# Altium footprint library Power_Filters.PcbLib: 10 footprints
Each footprint in its own frame and in the unit in brackets; x right, y up, seen from the top. Pads: shape width x height; smd on the part's side, far side on the other; paste and mask are expansions set on the pad; w line width, h text height; cw(c..) or ccw(c..) is an arc to the next point about the centre after c.
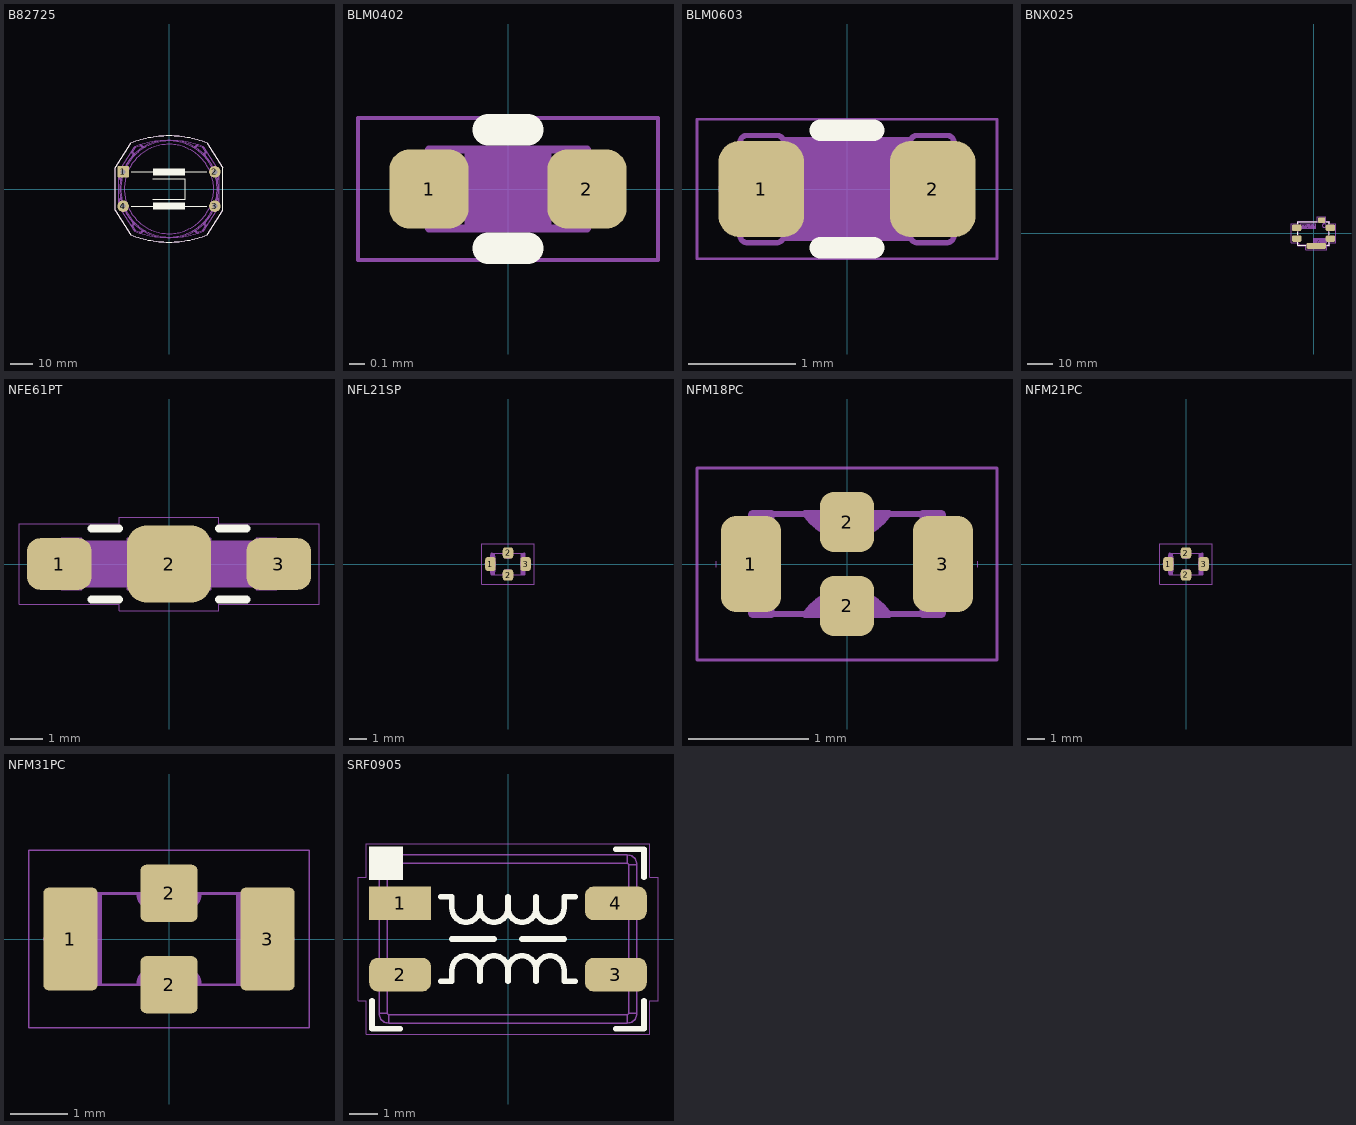
[diagram p0: the footprints below, top view; thin cyan lines are the x and y axes]

## B82725 [mm] "Ring core double chokes B82725 Series"
height 25
pads (4):
  rrect20% 5x5 hole 2.2 mask+0.05: 1(-20,7.5)
  round 5 hole 2.2 mask+0.05: 2(20,7.5) 3(20,-7.5) 4(-20,-7.5)
Top Overlay:
  rectangle: -7,-9 7,-6
  rectangle: -7,6 7,9
  lines w0.2: -23.479,-9.266 -16.647,-19.957 ccw(c0,21.148) 16.647,-19.957 23.479,-9.266 23.479,9.266 16.647,19.957 ccw(c0,-21.148) -16.647,19.957 -23.479,9.266 -23.479,-9.266
  lines w0.5: -16.5,-7.5 16.5,-7.5 ; -16.5,7.5 16.5,7.5 ; -7,-4.5 7,-4.5 7,4.5 -7,4.5
Top Courtyard:
  lines w0.025: -23.479,-9.266 -16.647,-19.957 ccw(c0,21.148) 16.647,-19.957 23.479,-9.266 23.479,9.266 16.647,19.957 ccw(c0,-21.148) -16.647,19.957 -23.479,9.266 -23.479,-9.266
Top Assembly:
  drawing of 168 lines, arcs and shapes, not listed
  text ".Designator" at -18.043,-1.811 h8
3D body "B82725A.x_t": height 28.5, standoff -4, extent -22,-21.2 22,21.2

## BLM0402 [mm]
height 0.5
pads (2):
  rrect50% 0.5x0.5 smd mask+0.075: 1(-0.5,0) 2(0.5,0)
Top Overlay:
  lines w0.2: -0.125,-0.375 0.125,-0.375 ; -0.125,0.375 0.125,0.375
Top Courtyard:
  lines w0.025: -0.95,-0.45 0.95,-0.45 0.95,0.45 -0.95,0.45 -0.95,-0.45
Top Assembly:
  lines w0.01: -0.74,-0.025 -0.74,0.025 ; 0.74,-0.025 0.74,0.025
  lines w0.05: -0.25,-0.25 -0.25,0.25 ; -0.2,-0.25 -0.2,0.25 ; -0.15,-0.25 -0.15,0.25 ; -0.1,-0.25 -0.1,0.25 ; -0.05,-0.25 -0.05,0.25 ; 0,-0.25 0,0.25 ; 0.05,-0.25 0.05,0.25 ; 0.1,-0.25 0.1,0.25 ; 0.15,-0.25 0.15,0.25 ; 0.2,-0.25 0.2,0.25 ; 0.25,-0.25 0.25,0.25 ; -0.5,-0.25 0.5,-0.25 0.5,0.25 -0.5,0.25 -0.5,-0.25
  text ".Designator" at -2.252,0.574 h1
3D body "BLM15.x_t": height 0.5, standoff 0, extent -0.5,-0.25 0.5,0.25

## BLM0603 [mm] "Filter 0603"
height 0.8
pads (2):
  rrect50% 0.8x0.9 smd mask+0.05: 1(-0.8,0) 2(0.8,0)
Top Overlay:
  lines w0.2: -0.25,-0.55 0.25,-0.55 ; -0.25,0.55 0.25,0.55
Top Courtyard:
  lines w0.025: -1.4,-0.65 -1.4,0.65 1.4,0.65 1.4,-0.65 -1.4,-0.65
Top Assembly:
  lines w0.01: -1.19,-0.025 -1.19,0.025 ; 1.19,-0.025 1.19,0.025
  lines w0.05: -0.55,-0.45 -0.55,0.45 ; -0.5,-0.45 -0.5,0.45 ; -0.45,-0.45 -0.45,0.45 ; -0.4,-0.45 -0.4,0.45 ; -0.35,-0.45 -0.35,0.45 ; -0.3,-0.45 -0.3,0.45 ; -0.25,-0.45 -0.25,0.45 ; -0.2,-0.45 -0.2,0.45 ; -0.15,-0.45 -0.15,0.45 ; -0.1,-0.45 -0.1,0.45 ; -0.05,-0.45 -0.05,0.45 ; 0,-0.45 0,0.45 ; 0.05,-0.45 0.05,0.45 ; 0.1,-0.45 0.1,0.45 ; 0.15,-0.45 0.15,0.45 ; 0.2,-0.45 0.2,0.45 ; 0.25,-0.45 0.25,0.45 ; 0.3,-0.45 0.3,0.45 ; 0.35,-0.45 0.35,0.45 ; 0.4,-0.45 0.4,0.45 ; 0.45,-0.45 0.45,0.45 ; 0.5,-0.45 0.5,0.45 ; 0.55,-0.45 0.55,0.45 ; 0.596,0.459 cw(c0.652,0.44) 0.653,0.5 0.656,0.5 0.936,0.5 cw(c0.936,0.44) 0.996,0.44 0.996,-0.44 cw(c0.936,-0.44) 0.936,-0.5 0.656,-0.5 0.652,-0.5 ; -0.596,-0.46 cw(c-0.652,-0.44) -0.652,-0.5 -0.656,-0.5 -0.936,-0.5 cw(c-0.936,-0.44) -0.996,-0.44 -0.996,0.44 cw(c-0.936,0.44) -0.936,0.5 -0.656,0.5 -0.653,0.5 cw(c-0.652,0.44) -0.596,0.46 ; -0.596,-0.46 -0.596,-0.442 -0.596,-0.4 -0.596,0.4 -0.596,0.442 -0.596,0.46 ; -0.596,-0.46 0.596,-0.46 ; -0.596,0.46 0.596,0.46 0.596,0.442 0.596,0.4 0.596,-0.4 0.596,-0.442 0.596,-0.46 ; 0.596,-0.46 ccw(c0.652,-0.44) 0.652,-0.5 ; 0.653,-0.5 0.653,-0.5
  text ".Designator" at -2.252,0.774 h1
3D body "BLM18.x_t": height 0.8, standoff 0, extent -0.8,-0.4 0.8,0.4

## BNX025 [mm]
pads (6):
  rrect50% 3.8x2.5 smd paste-2: 1(-6.7,2.15) 2(6.7,2.15) 3(-6.7,-2.15) 4(6.7,-2.15)
  rrect50% 2.8x2.3 smd paste-2: 5(3.2,5.15)
  rrect50% 7.9x2.3 smd paste-2: 6(1.05,-5.05)
Top Overlay:
  lines w0.2: -6.2,-3.65 -6.2,-4.85 -3.1,-4.85 ; -6.2,-0.65 -6.2,0.65 ; -6.2,3.65 -6.2,4.65 1.5,4.65 ; 4.9,4.65 6.3,4.65 6.3,3.65 ; 5.3,-4.85 6.3,-4.85 6.3,-3.65 ; 6.3,-0.65 6.3,0.65
Top Paste:
  drawing of 40 lines, arcs and shapes, not listed
Top Courtyard:
  lines w0.025: -8.9,-3.7 -8.9,3.7 -6.35,3.7 -6.35,4.8 1.5,4.8 1.5,6.6 4.9,6.6 4.9,4.8 6.45,4.8 6.45,3.7 8.9,3.7 8.9,-3.7 6.45,-3.7 6.45,-5 5.3,-5 5.3,-6.5 -3.2,-6.5 -3.2,-5 -6.35,-5 -6.35,-3.7 -8.9,-3.7
Top Assembly:
  drawing of 472 lines, arcs and shapes, not listed
  text ".DESIGNATOR" at -6.073,-0.641 h2
3D body "BNX025.step": height 3.6, standoff 0, extent -6.15,-4.65 6.15,4.65

## NFE61PT [mm] "3-terminal capacitor"
height 1.6
pads (3):
  rrect50% 2x1.6 smd mask+0.05: 1(-3.4,0) 3(3.4,0)
  rrect50% 2.6x2.4 smd paste-5 mask+0.05: 2(0,0)
Top Overlay:
  lines w0.254: -2.4,-1.1 -1.55,-1.1 ; -2.4,1.1 -1.55,1.1 ; 1.55,-1.1 2.4,-1.1 ; 1.55,1.1 2.4,1.1
Top Courtyard:
  lines w0.025: -4.65,-1.25 -4.65,1.25 -1.55,1.25 -1.55,1.45 1.55,1.45 1.55,1.25 4.65,1.25 4.65,-1.25 1.55,-1.25 1.55,-1.45 -1.55,-1.45 -1.55,-1.25 -4.65,-1.25
Top Assembly:
  lines w0.05: -2.7,-0.7 -1.3,-0.7 ; -2.7,0.7 -1.3,0.7 ; -2.65,-0.7 -2.65,0.7 ; -2.6,-0.7 -2.6,0.7 ; -2.55,-0.7 -2.55,0.7 ; -2.5,-0.7 -2.5,0.7 ; -2.45,-0.7 -2.45,0.7 ; -2.4,-0.7 -2.4,0.7 ; -2.35,-0.7 -2.35,0.7 ; -2.3,-0.7 -2.3,0.7 ; -2.25,-0.7 -2.25,0.7 ; -2.2,-0.7 -2.2,0.7 ; -2.15,-0.7 -2.15,0.7 ; -2.1,-0.7 -2.1,0.7 ; -2.05,-0.7 -2.05,0.7 ; -2,-0.7 -2,0.7 ; -1.95,-0.7 -1.95,0.7 ; -1.9,-0.7 -1.9,0.7 ; -1.85,-0.7 -1.85,0.7 ; -1.8,-0.7 -1.8,0.7 ; -1.75,-0.7 -1.75,0.7 ; -1.7,-0.7 -1.7,0.7 ; -1.65,-0.7 -1.65,0.7 ; -1.6,-0.7 -1.6,0.7 ; -1.55,-0.7 -1.55,0.7 ; -1.5,-0.7 -1.5,0.7 ; -1.45,-0.7 -1.45,0.7 ; -1.4,-0.7 -1.4,0.7 ; -1.35,-0.7 -1.35,0.7 ; 1.3,-0.7 2.7,-0.7 ; 1.3,0.7 2.7,0.7 ; 1.35,-0.7 1.35,0.7 ; 1.4,-0.7 1.4,0.7 ; 1.45,-0.7 1.45,0.7 ; 1.5,-0.7 1.5,0.7 ; 1.55,-0.7 1.55,0.7 ; 1.6,-0.7 1.6,0.7 ; 1.65,-0.7 1.65,0.7 ; 1.7,-0.7 1.7,0.7 ; 1.75,-0.7 1.75,0.7 ; 1.8,-0.7 1.8,0.7 ; 1.85,-0.7 1.85,0.7 ; 1.9,-0.7 1.9,0.7 ; 1.95,-0.7 1.95,0.7 ; 2,-0.7 2,0.7 ; 2.05,-0.7 2.05,0.7 ; 2.1,-0.7 2.1,0.7 ; 2.15,-0.7 2.15,0.7 ; 2.2,-0.7 2.2,0.7 ; 2.25,-0.7 2.25,0.7 ; 2.3,-0.7 2.3,0.7 ; 2.35,-0.7 2.35,0.7 ; 2.4,-0.7 2.4,0.7 ; 2.45,-0.7 2.45,0.7 ; 2.5,-0.7 2.5,0.7 ; 2.55,-0.7 2.55,0.7 ; 2.6,-0.7 2.6,0.7 ; 2.65,-0.7 2.65,0.7 ; -3.3,-0.8 cw(c-3.3,-0.7) -3.4,-0.7 -3.4,0.7 cw(c-3.3,0.7) -3.3,0.8 ; -3.3,-0.8 -2.7,-0.8 -2.7,0.8 -3.3,0.8 ; -3.3,-0.8 -3.3,0.8 ; 3.3,-0.8 ccw(c3.3,-0.7) 3.4,-0.7 3.4,0.7 ccw(c3.3,0.7) 3.3,0.8 ; 3.3,-0.8 2.7,-0.8 2.7,0.8 3.3,0.8 ; 3.3,-0.8 3.3,0.8 ; -1.3,-0.8 1.3,-0.8 1.3,0.8 -1.3,0.8 -1.3,-0.8
  text ".Designator" at -2.252,-0.226 h1
3D body "NFE61.x_t": height 1.6, standoff 0, extent -3.4,-0.8 3.4,0.8

## NFL21SP [mm] "3-terminal capacitor NFL21SP Series"
height 0.85
pads (4):
  rrect50% 0.6x0.8 smd mask+0.05: 1(-1,0) 3(1,0)
  rrect50% 0.6x0.65 smd mask+0.05: 2(0,-0.63) 2(0,0.63)
Top Courtyard:
  lines w0.025: -1.5,-1.15 -1.5,1.15 1.5,1.15 1.5,-1.15 -1.5,-1.15
Top Assembly:
  lines w0.01: -1.34,-0.025 -1.34,0.025 ; 1.34,-0.025 1.34,0.025
  lines w0.05: -0.957,-0.574 -0.957,0.575 ; -0.893,-0.625 cw(c-0.893,-0.525) -0.993,-0.525 -0.993,0.525 cw(c-0.893,0.525) -0.893,0.625 ; -0.857,-0.624 -0.857,0.625 ; -0.807,-0.624 -0.807,0.625 ; -0.311,-0.624 cw(c-0.007,-0.624) 0.297,-0.624 ; -0.311,0.624 ccw(c-0.007,0.624) 0.297,0.624 ; -0.3,-0.625 -0.3,-0.55 ; -0.3,0.55 -0.3,0.625 ; -0.25,-0.61 -0.25,-0.475 ; -0.25,0.475 -0.25,0.61 ; -0.2,-0.615 -0.2,-0.425 ; -0.2,0.425 -0.2,0.615 ; -0.15,-0.615 -0.15,-0.375 ; -0.15,0.375 -0.15,0.615 ; -0.1,-0.62 -0.1,-0.35 ; -0.1,0.35 -0.1,0.62 ; -0.05,-0.625 -0.05,-0.325 ; -0.05,0.325 -0.05,0.625 ; 0,-0.625 0,-0.325 ; 0,0.325 0,0.625 ; 0.05,-0.625 0.05,-0.325 ; 0.05,0.325 0.05,0.625 ; 0.1,-0.62 0.1,-0.35 ; 0.1,0.35 0.1,0.62 ; 0.15,-0.615 0.15,-0.375 ; 0.15,0.375 0.15,0.615 ; 0.2,-0.615 0.2,-0.425 ; 0.2,0.425 0.2,0.615 ; 0.25,-0.61 0.25,-0.475 ; 0.25,0.475 0.25,0.61 ; 0.807,-0.624 0.807,0.625 ; 0.857,-0.624 0.857,0.625 ; 0.907,-0.624 0.907,0.625 ; 0.957,-0.574 0.957,0.575 ; -0.907,-0.624 -0.907,0.625 0.893,0.625 cw(c0.893,0.525) 0.993,0.525 0.993,-0.525 cw(c0.893,-0.525) 0.893,-0.625 -0.907,-0.625 ; -0.757,-0.624 ccw(c-4.638,0) -0.757,0.625 -0.757,-0.624 ; 0.757,-0.624 cw(c4.638,0) 0.757,0.625 0.757,-0.624
  text ".Designator" at -2.252,0.974 h1
3D body "NFL21SP.x_t": height 0.85, standoff 0, extent -1,-0.625 1,0.625

## NFM18PC [mm] "3-terminal capacitor NFM18CC/18PC Series"
height 0.8
pads (4):
  rrect50% 0.5x0.8 smd mask+0.05: 1(-0.8,0) 3(0.8,0)
  rrect50% 0.45x0.5 smd mask+0.05: 2(0,-0.35) 2(0,0.35)
Top Courtyard:
  lines w0.025: -1.25,-0.8 1.25,-0.8 1.25,0.8 -1.25,0.8 -1.25,-0.8
Top Assembly:
  lines w0.01: -1.09,-0.025 -1.09,0.025 ; 1.09,-0.025 1.09,0.025
  lines w0.05: -0.78,-0.405 -0.78,0.405 ; -0.73,-0.405 -0.73,0.405 ; -0.68,-0.405 -0.68,0.405 ; -0.63,-0.415 -0.344,-0.415 ; -0.63,0.415 -0.344,0.415 ; -0.3,-0.425 -0.3,-0.375 ; -0.3,0.375 -0.3,0.425 ; -0.25,-0.425 -0.25,-0.315 ; -0.25,0.315 -0.25,0.425 ; -0.2,-0.425 -0.2,-0.295 ; -0.2,0.295 -0.2,0.425 ; -0.15,-0.425 -0.15,-0.265 ; -0.15,0.265 -0.15,0.425 ; -0.1,-0.425 -0.1,-0.265 ; -0.1,0.265 -0.1,0.425 ; -0.05,-0.425 -0.05,-0.265 ; -0.05,0.265 -0.05,0.425 ; 0,-0.425 0,-0.24 ; 0,0.24 0,0.425 ; 0.05,-0.425 0.05,-0.24 ; 0.05,0.24 0.05,0.425 ; 0.1,-0.425 0.1,-0.24 ; 0.1,0.24 0.1,0.425 ; 0.15,-0.425 0.15,-0.265 ; 0.15,0.265 0.15,0.425 ; 0.2,-0.425 0.2,-0.295 ; 0.2,0.295 0.2,0.425 ; 0.25,-0.425 0.25,-0.315 ; 0.25,0.315 0.25,0.425 ; 0.3,-0.425 0.3,-0.375 ; 0.3,0.375 0.3,0.425 ; 0.344,-0.415 0.63,-0.415 ; 0.344,0.415 0.63,0.415 ; 0.67,-0.405 0.67,0.405 ; 0.72,-0.405 0.72,0.405 ; 0.77,-0.405 0.77,0.405 ; -0.8,-0.405 ccw(c-0.78,-0.405) -0.78,-0.425 -0.63,-0.425 -0.63,-0.405 -0.63,0.405 -0.63,0.425 -0.78,0.425 ccw(c-0.78,0.405) -0.8,0.405 -0.8,-0.405 ; -0.35,-0.425 cw(c0,-0.631) -0.337,-0.405 cw(c0,-0.631) 0.337,-0.405 cw(c0,-0.631) 0.35,-0.425 -0.35,-0.425 ; -0.35,0.425 ccw(c0,0.631) -0.337,0.405 ccw(c0,0.631) 0.337,0.405 ccw(c0,0.631) 0.35,0.425 -0.35,0.425 ; 0.63,-0.425 0.63,-0.405 0.63,0.405 0.63,0.425 0.78,0.425 cw(c0.78,0.405) 0.8,0.405 0.8,-0.405 cw(c0.78,-0.405) 0.78,-0.425 0.63,-0.425
  text ".Designator" at -2.252,0.674 h1
3D body "NFM18.x_t": height 0.6, standoff 0, extent -0.8,-0.4 0.8,0.4

## NFM21PC [mm] "3-terminal capacitor NFM21CC/21PC Series"
height 0.85
pads (4):
  rrect50% 0.6x0.8 smd mask+0.05: 1(-1,0) 3(1,0)
  rrect50% 0.6x0.65 smd mask+0.05: 2(0,-0.625) 2(0,0.625)
Top Courtyard:
  lines w0.025: -1.5,-1.15 1.5,-1.15 1.5,1.15 -1.5,1.15 -1.5,-1.15
Top Assembly:
  lines w0.01: -1.34,-0.025 -1.34,0.025 ; 1.34,-0.025 1.34,0.025
  lines w0.05: -0.957,-0.574 -0.957,0.575 ; -0.893,-0.625 cw(c-0.893,-0.525) -0.993,-0.525 -0.993,0.525 cw(c-0.893,0.525) -0.893,0.625 ; -0.857,-0.624 -0.857,0.625 ; -0.807,-0.624 -0.807,0.625 ; -0.311,-0.624 cw(c-0.007,-0.624) 0.297,-0.624 ; -0.311,0.624 ccw(c-0.007,0.624) 0.297,0.624 ; -0.3,-0.625 -0.3,-0.55 ; -0.3,0.55 -0.3,0.625 ; -0.25,-0.61 -0.25,-0.475 ; -0.25,0.475 -0.25,0.61 ; -0.2,-0.615 -0.2,-0.425 ; -0.2,0.425 -0.2,0.615 ; -0.15,-0.615 -0.15,-0.375 ; -0.15,0.375 -0.15,0.615 ; -0.1,-0.62 -0.1,-0.35 ; -0.1,0.35 -0.1,0.62 ; -0.05,-0.625 -0.05,-0.325 ; -0.05,0.325 -0.05,0.625 ; 0,-0.625 0,-0.325 ; 0,0.325 0,0.625 ; 0.05,-0.625 0.05,-0.325 ; 0.05,0.325 0.05,0.625 ; 0.1,-0.62 0.1,-0.35 ; 0.1,0.35 0.1,0.62 ; 0.15,-0.615 0.15,-0.375 ; 0.15,0.375 0.15,0.615 ; 0.2,-0.615 0.2,-0.425 ; 0.2,0.425 0.2,0.615 ; 0.25,-0.61 0.25,-0.475 ; 0.25,0.475 0.25,0.61 ; 0.807,-0.624 0.807,0.625 ; 0.857,-0.624 0.857,0.625 ; 0.907,-0.624 0.907,0.625 ; 0.957,-0.574 0.957,0.575 ; -0.907,-0.625 0.893,-0.625 ccw(c0.893,-0.525) 0.993,-0.525 0.993,0.525 ccw(c0.893,0.525) 0.893,0.625 -0.907,0.625 -0.907,-0.624 ; -0.757,-0.624 ccw(c-4.638,0) -0.757,0.625 -0.757,-0.624 ; 0.757,-0.624 cw(c4.638,0) 0.757,0.625 0.757,-0.624
  text ".Designator" at -2.252,0.974 h1
3D body "NFM21.x_t": height 0.85, standoff 0, extent -1,-0.625 1,0.625

## NFM31PC [mm] "3-terminal capacitor NFM31PC/31KC Series"
height 0.8
pads (4):
  rrect20% 0.95x1.8 smd mask+0.05: 1(-1.725,0) 3(1.725,0)
  rrect20% 1x1 smd mask+0.05: 2(0,-0.8) 2(0,0.8)
Top Courtyard:
  lines w0.025: -2.45,-1.55 2.45,-1.55 2.45,1.55 -2.45,1.55 -2.45,-1.55
Top Assembly:
  lines w0.01: -2.19,-0.025 -2.19,0.025 ; 2.19,-0.025 2.19,0.025
  lines w0.05: -1.55,-0.75 -1.55,0.75 ; -1.45,-0.8 -1.45,0.8 ; -1.4,-0.8 -1.4,0.8 ; -1.35,-0.8 -1.35,0.8 ; -1.3,-0.8 -1.3,0.8 ; -1.25,-0.8 -1.25,0.8 ; -1.2,0.798 -0.55,0.798 ; -0.5,-0.794 -0.5,-0.644 ; -0.5,0.644 -0.5,0.794 ; -0.45,-0.794 -0.45,-0.594 ; -0.45,0.594 -0.45,0.794 ; -0.4,-0.794 -0.4,-0.544 ; -0.4,0.544 -0.4,0.794 ; -0.35,-0.794 -0.35,-0.524 ; -0.35,0.524 -0.35,0.794 ; -0.3,-0.794 -0.3,-0.524 ; -0.3,0.524 -0.3,0.794 ; -0.25,-0.794 -0.25,-0.5 ; -0.25,0.794 -0.25,0.5 ; -0.2,-0.794 -0.2,-0.5 ; -0.2,0.5 -0.2,0.794 ; -0.15,-0.794 -0.15,-0.5 ; -0.15,0.5 -0.15,0.794 ; -0.1,-0.794 -0.1,-0.5 ; -0.1,0.5 -0.1,0.794 ; -0.05,-0.794 -0.05,-0.5 ; -0.05,0.5 -0.05,0.794 ; 0,-0.794 0,-0.5 ; 0,0.5 0,0.794 ; 0.05,-0.794 0.05,-0.5 ; 0.05,0.5 0.05,0.794 ; 0.1,-0.794 0.1,-0.5 ; 0.1,0.5 0.1,0.794 ; 0.15,-0.794 0.15,-0.5 ; 0.15,0.5 0.15,0.794 ; 0.2,-0.794 0.2,-0.5 ; 0.2,0.5 0.2,0.794 ; 0.25,-0.794 0.25,-0.5 ; 0.25,0.794 0.25,0.5 ; 0.3,-0.794 0.3,-0.524 ; 0.3,0.524 0.3,0.794 ; 0.35,-0.794 0.35,-0.524 ; 0.35,0.524 0.35,0.794 ; 0.4,-0.794 0.4,-0.544 ; 0.4,0.544 0.4,0.794 ; 0.45,-0.794 0.45,-0.594 ; 0.45,0.594 0.45,0.794 ; 0.5,-0.794 0.5,-0.644 ; 0.5,0.644 0.5,0.794 ; 0.55,0.798 1.2,0.798 ; 1.25,-0.8 1.25,0.8 ; 1.3,-0.8 1.3,0.8 ; 1.35,-0.8 1.35,0.8 ; 1.4,-0.8 1.4,0.8 ; 1.45,-0.8 1.45,0.8 ; 1.55,-0.75 1.55,0.75 ; -1.5,-0.8 cw(c-1.5,-0.7) -1.6,-0.7 -1.6,0.7 cw(c-1.5,0.7) -1.5,0.8 ; -1.5,-0.8 -1.2,-0.8 ; -1.5,-0.8 -1.5,0.8 ; -1.5,0.8 -1.2,0.8 -1.2,0.7 -1.2,-0.7 -1.2,-0.8 ; -1.2,-0.8 -0.55,-0.8 ; -0.55,-0.8 cw(c-0.25,-0.8) -0.533,-0.7 cw(c-0.25,-0.8) -0.25,-0.5 ; -0.55,-0.8 0.55,-0.8 ; -0.25,-0.5 0.25,-0.5 ; -0.25,0.5 cw(c-0.25,0.8) -0.533,0.7 cw(c-0.25,0.8) -0.55,0.8 0.55,0.8 cw(c0.25,0.8) 0.533,0.7 cw(c0.25,0.8) 0.25,0.5 ; -0.25,0.5 0.25,0.5 ; 0.25,-0.5 cw(c0.25,-0.8) 0.533,-0.7 cw(c0.25,-0.8) 0.55,-0.8 ; 0.55,-0.8 1.2,-0.8 ; 1.2,-0.8 1.5,-0.8 ; 1.2,-0.8 1.2,-0.7 1.2,0.7 1.2,0.8 1.5,0.8 ; 1.5,-0.8 ccw(c1.5,-0.7) 1.6,-0.7 1.6,0.7 ccw(c1.5,0.7) 1.5,0.8 ; 1.5,-0.8 1.5,0.8
  text ".Designator" at -2.704,1.129 h1.2
3D body "NFM31.x_t": height 1.3, standoff 0, extent -1.6,-0.8 1.6,0.8

## SRF0905 [mm] "SRF0905 Series - Line Filter"
height 5
pads (4):
  rect 2.2x1.2 smd: 1(-3.85,1.27)
  rrect50% 2.2x1.2 smd: 2(-3.85,-1.27) 3(3.85,-1.27) 4(3.85,1.27)
Top Overlay:
  rectangle: -4.95,2.1 -3.75,3.3
  lines w0.2: -4.85,-2.2 -4.85,-3.2 -3.85,-3.2 ; -2.4,-1.5 -2,-1.5 -2,-1.1 cw(c-1.5,-1.1) -1,-1.1 ; -2.4,1.5 -2,1.5 -2,1.1 ccw(c-1.5,1.1) -1,1.1 ; -2,0 -0.5,0 ; -1,-1.5 -1,-1.1 ; -1,1.5 -1,1.1 ; 0,-1.5 0,-1.1 ; 0,1.5 0,1.1 ; 0.5,0 2,0 ; 1,-1.5 1,-1.1 ; 1,1.5 1,1.1 ; 2.4,-1.5 2,-1.5 2,-1.1 ccw(c1.5,-1.1) 1,-1.1 ; 2.4,1.5 2,1.5 2,1.1 cw(c1.5,1.1) 1,1.1 ; 3.85,-3.2 4.85,-3.2 4.85,-2.2 ; 3.85,3.2 4.85,3.2 4.85,2.2 ; -1,-1.1 cw(c-0.5,-1.1) 0,-1.1 ; -1,1.1 ccw(c-0.5,1.1) 0,1.1 ; 0,-1.1 cw(c0.5,-1.1) 1,-1.1 ; 0,1.1 ccw(c0.5,1.1) 1,1.1
Top Courtyard:
  lines w0.025: -5.35,-2.2 -5.05,-2.2 -5.05,-3.4 5.05,-3.4 5.05,-2.2 5.35,-2.2 5.35,2.2 5.05,2.2 5.05,3.4 -5.05,3.4 -5.05,2.2 -5.35,2.2 -5.35,-2.2
Top Assembly:
  lines w0.05: -4.6,-1.77 -4.65,-1.77 -4.65,-0.77 -4.6,-0.77 ; -4.6,0.77 -4.65,0.77 -4.65,1.77 -4.6,1.77 ; 4.6,-1.77 4.65,-1.77 4.65,-0.77 4.6,-0.77 ; 4.6,0.77 4.65,0.77 4.65,1.77 4.6,1.77 ; -4.6,-2.65 ccw(c-4.25,-2.65) -4.25,-3 ; -4.6,-2.65 -4.6,2.65 ; -4.6,-2.65 -4.3,-2.65 ; -4.6,2.65 cw(c-4.25,2.65) -4.25,3 ; -4.6,2.65 -4.3,2.65 ; -4.3,-2.65 ccw(c-4.25,-2.65) -4.25,-2.7 ; -4.3,-2.65 -4.3,2.65 ; -4.3,2.65 cw(c-4.25,2.65) -4.25,2.7 ; -4.25,-3 -4.25,-2.7 ; -4.25,-3 4.25,-3 ; -4.25,-2.7 4.25,-2.7 ; -4.25,2.7 -4.25,3 ; -4.25,2.7 4.25,2.7 ; -4.25,3 4.25,3 ; 4.25,-3 ccw(c4.25,-2.65) 4.6,-2.65 ; 4.25,-3 4.25,-2.7 ; 4.25,-2.7 ccw(c4.25,-2.65) 4.3,-2.65 ; 4.25,2.7 cw(c4.25,2.65) 4.3,2.65 ; 4.25,2.7 4.25,3 ; 4.25,3 cw(c4.25,2.65) 4.6,2.65 ; 4.3,-2.65 4.6,-2.65 ; 4.3,-2.65 4.3,2.65 ; 4.3,2.65 4.6,2.65 ; 4.6,-2.65 4.6,2.65
  text ".DESIGNATOR" at -6.073,-0.641 h2
3D body "SRF0905.x_t": height 4.9, standoff 0, extent -4.6,-3 4.6,3